# EAGLE library part ATMEGA328-PU (library inker_super_board_parts)
MCU, 8BIT, AVR, 32K FLASH, 28PDIP
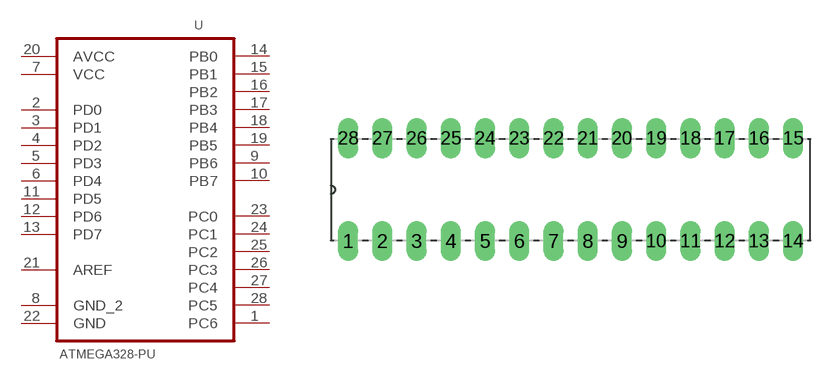
[diagram p8: symbol with the pads of PDIP-28; footprint PDIP-28]

Designator prefix U

## ATMEGA328-PU (DESCRIPTION: 8 Bit Microcontroller, AVR ATmega Family ATmega328 Series Microcontrollers, 20 MHz, 1 KB, 32 KB; MANUFACTURER_NAME: MICROCHIP; MANUFACTURER_PART_NUMBER: ATMEGA328-PU; PACKAGE_CASE: PDIP-28; PRODUCT_CATOGORY: 8-bit Microcontrollers - MCU; TECHNOLOGY: Through Hole)  [PDIP-28]
1  PC6
2  PD0
3  PD1
4  PD2
5  PD3
6  PD4
7  VCC  pwr
8  GND_2  pwr
9  PB6
10  PB7
11  PD5
12  PD6
13  PD7
14  PB0
15  PB1
16  PB2
17  PB3
18  PB4
19  PB5
20  AVCC  pwr
21  AREF  pas
22  GND  pwr
23  PC0
24  PC1
25  PC2
26  PC3
27  PC4
28  PC5

## Footprint PDIP-28 (pad centres in mm)
drill 0.991 long: 1 -15.54,-3.81; 2 -13,-3.81; 3 -10.46,-3.81; 4 -7.92,-3.81; 5 -5.38,-3.81; 6 -2.84,-3.81; 7 -0.3,-3.81; 8 2.24,-3.81; 9 4.78,-3.81; 10 7.32,-3.81; 11 9.86,-3.81; 12 12.4,-3.81; 13 14.94,-3.81; 14 17.48,-3.81; 15 17.48,3.81; 16 14.94,3.81; 17 12.4,3.81; 18 9.86,3.81; 19 7.32,3.81; 20 4.78,3.81; 21 2.24,3.81; 22 -0.3,3.81; 23 -2.84,3.81; 24 -5.38,3.81; 25 -7.92,3.81; 26 -10.46,3.81; 27 -13,3.81; 28 -15.54,3.81